# EAGLE library part DF17(?)-20DS-0.5V(57) (library con-hirose)
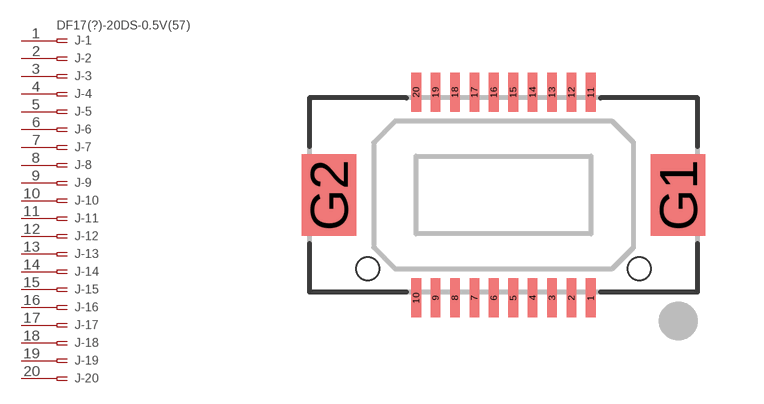
[diagram p0: symbol with the pads of DF17-20DS; footprint DF17-20DS]

Designator prefix J; gates -1=FV -2=F -3=F -4=F -5=F -6=F -7=F -8=F -9=F -10=F -11=F -12=F -13=F -14=F -15=F -16=F -17=F -18=F -19=F -20=F

## DF17(3.0)-20DS-0.5V(57)  [DF17-20DS]
1  -1:P
2  -2:P
3  -3:P
4  -4:P
5  -5:P
6  -6:P
7  -7:P
8  -8:P
9  -9:P
10  -10:P
11  -11:P
12  -12:P
13  -13:P
14  -14:P
15  -15:P
16  -16:P
17  -17:P
18  -18:P
19  -19:P
20  -20:P

## DF17(4.0)-20DS-0.5V(57)  [DF17-20DS]
Pads as for DF17-20DS

## Footprint DF17-20DS (pad centres in mm)
smd 0.25 x 1: 1 2.25,-2.65; 2 1.75,-2.65; 3 1.25,-2.65; 4 0.75,-2.65; 5 0.25,-2.65; 6 -0.25,-2.65; 7 -0.75,-2.65; 8 -1.25,-2.65; 9 -1.75,-2.65; 10 -2.25,-2.65; 11 2.25,2.65; 12 1.75,2.65; 13 1.25,2.65; 14 0.75,2.65; 15 0.25,2.65; 16 -0.25,2.65; 17 -0.75,2.65; 18 -1.25,2.65; 19 -1.75,2.65; 20 -2.25,2.65
smd 1.4 x 2.1: G1 4.5,0; G2 -4.5,0
hole 0.6 at -3.5,-1.9
hole 0.6 at 3.5,-1.9